# Altium schematic symbol library Adafruit Trellis.SCHLIB: 1 symbol
Pins are listed as number, name and electrical type; pins without a type are passive.

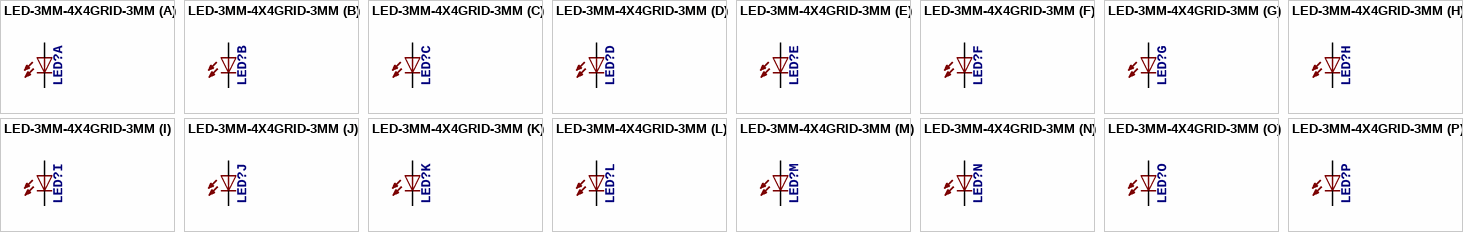
[diagram p0: symbol LED-3MM-4X4GRID-3MM]

## LED-3MM-4X4GRID-3MM
designator LED?
footprint LED3MM-4X4GRID
part A pins: A1 A, K1 C
part B pins: A2 A, K2 C
part C pins: A3 A, K3 C
part D pins: A4 A, K4 C
part E pins: A5 A, K5 C
part F pins: A6 A, K6 C
part G pins: A7 A, K7 C
part H pins: A8 A, K8 C
part I pins: A9 A, K9 C
part J pins: A10 A, K10 C
part K pins: A11 A, K11 C
part L pins: A12 A, K12 C
part M pins: A13 A, K13 C
part N pins: A14 A, K14 C
part O pins: A15 A, K15 C
part P pins: A16 A, K16 C